# Altium integrated library Lattice FPGA ECP2.IntLib: 320 symbols (part 10 of 42)
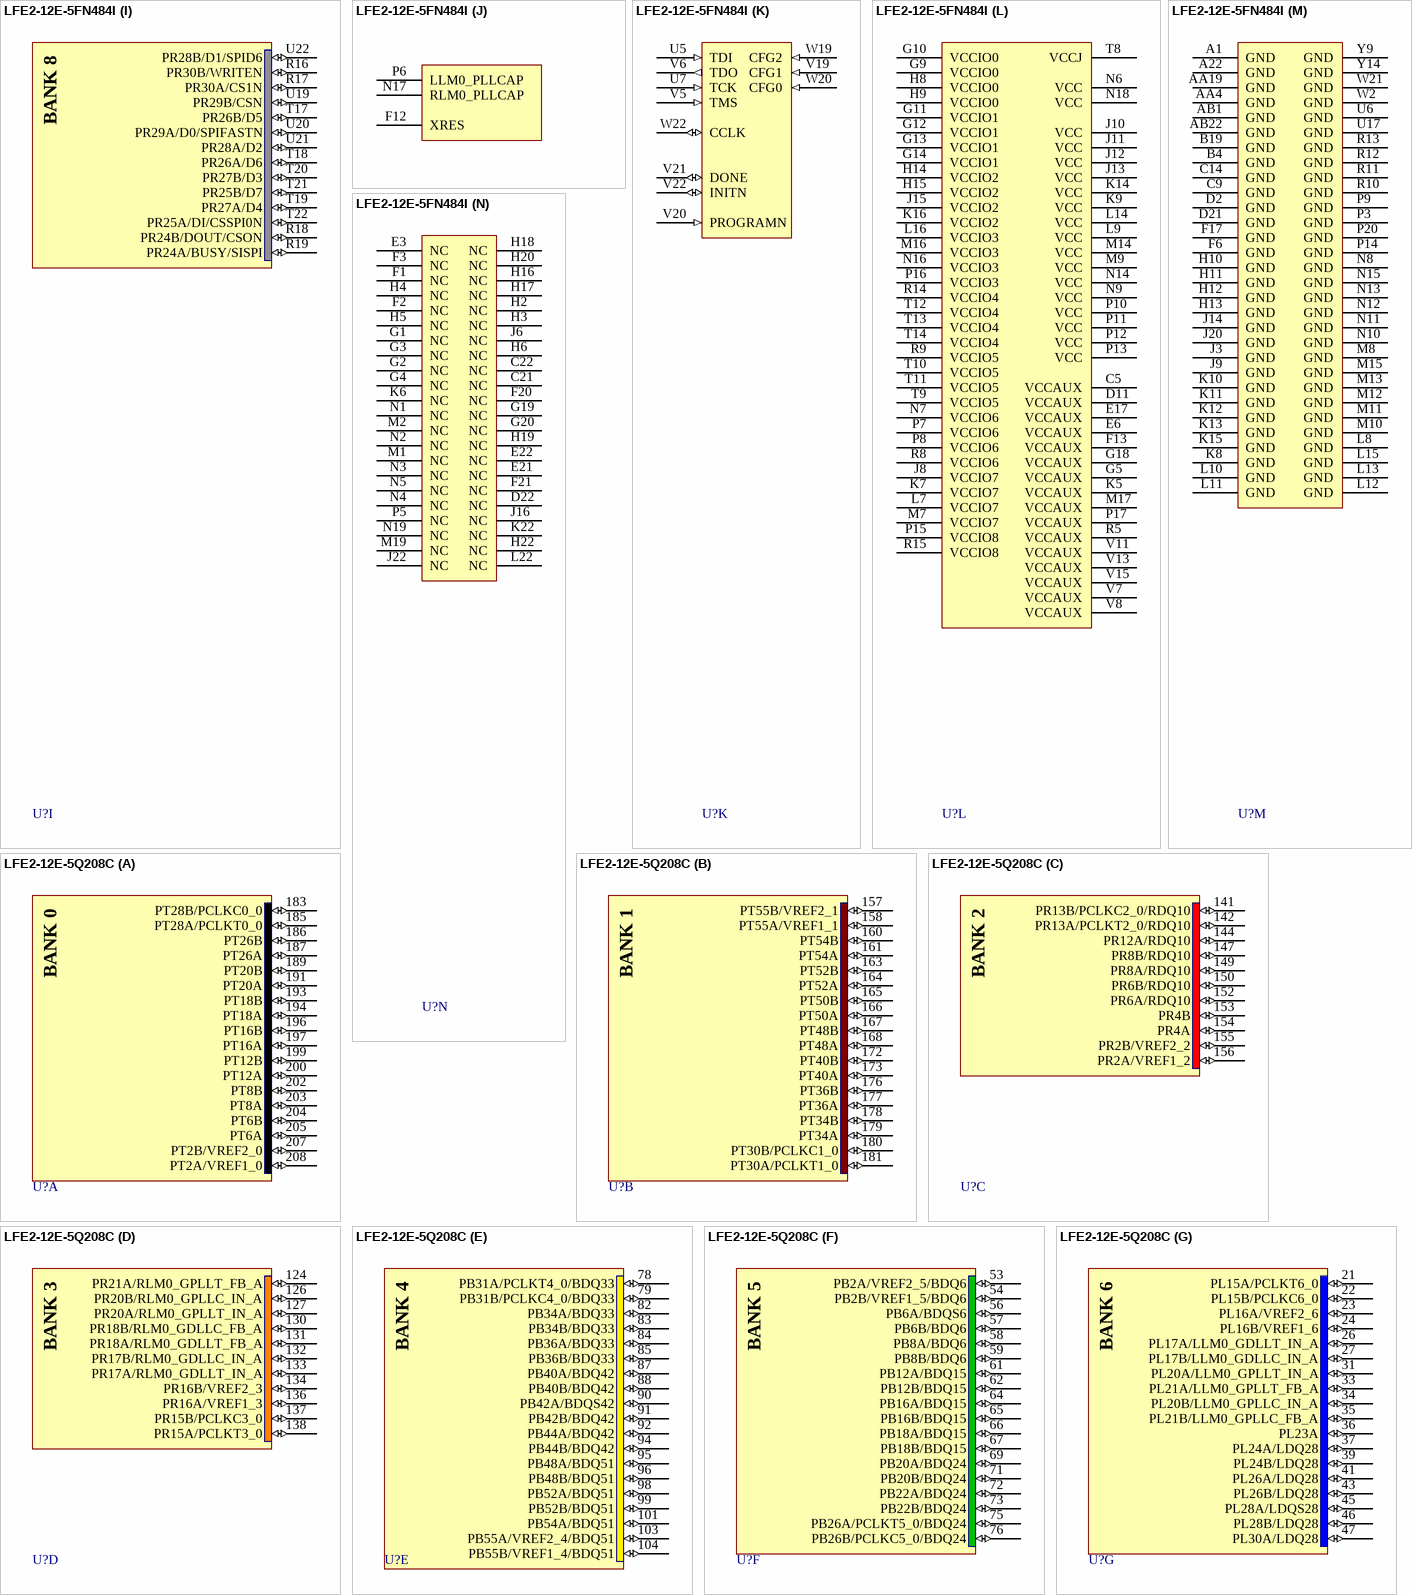
[diagram p503: symbols LFE2-12E-5FN484I to LFE2-12E-5Q208C]

## LFE2-12E-5FN484I
designator U?
ECP2 1.2V  FPGA, 297 I/Os, 12K LUTs, 484-Ball fpBGA, Speed Grade 5, Industrial Grade, Pb-Free; Published: 22-Jan-2007; LatestRevisionDate: 30-Apr-2009; LatestRevisionNote: Pin names updated.; DatasheetVersion: ver04.3, Mar-2009; PackageVersion: ver01.8, Dec-2008; PackageReference: fpBGA484; Publisher: Altium Limited; PackageDescription: 484-Ball Fine Pitch Ball Grid Array (fpBGA484); Code_IPC: BGA100P22X22-484; ComponentLink1Description: Manufacturer Link; ComponentLink1URL: http://www.latticesemi.com/products/fpga/ecp2/index.cfm; ComponentLink2Description: Datasheet; ComponentLink2URL: http://www.latticesemi.com/documents/HB1003.pdf
footprint fpBGA484 (BGA, 484-Leads, Body 23x23mm, Pitch 1mm)
3D model LFE2-12E_F484 (484-Ball Fine Pitch Ball Grid Array (fpBGA484))
part A pins: A2 PT12A (io), A3 PT12B (io), A4 PT13A (io), A5 PT13B (io), A6 PT21A (io), A7 PT24A (io), A8 PT24B (io), A9 PT27A (io), A10 PT27B (io), B1 PT5A (io), B2 PT5B (io), B3 PT10A (io), B5 PT16A (io), B6 PT16B (io), B7 PT21B (io), B8 PT23B (io), B9 PT23A (io), B10 PT28B/PCLKC0_0 (io), B11 PT28A/PCLKT0_0 (io), C1 PT2A/VREF1_0 (io), C2 PT3A (io), C3 PT10B (io), C4 PT6A (io), C6 PT17A (io), C7 PT17B (io), C8 PT20B (io), C10 PT26A (io), C11 PT26B (io), D1 PT2B/VREF2_0 (io), D3 PT3B (io), D4 PT6B (io), D5 PT7B (io), D6 PT7A (io), D7 PT9A (io), D8 PT20A (io), D9 PT15A (io), D10 PT18B (io), E7 PT8B (io), E8 PT11A (io), E9 PT14A (io), E10 PT18A (io), E11 PT25B (io), F7 PT8A (io), F8 PT9B (io), F9 PT14B (io), F10 PT15B (io), F11 PT25A (io), G8 PT11B (io), H7 PT4A (io), J7 PT4B (io)
part B pins: A11 PT31A (io), A12 PT31B (io), A13 PT35B (io), A14 PT39A (io), A15 PT40A (io), A16 PT44A (io), A17 PT44B (io), A18 PT49B (io), A19 PT52A (io), A20 PT50A (io), A21 PT50B (io), B12 PT30B/PCLKC1_0 (io), B13 PT35A (io), B14 PT39B (io), B15 PT40B (io), B16 PT45A (io), B17 PT45B (io), B18 PT49A (io), B20 PT52B (io), B21 PT55B/VREF2_1 (io), B22 PT55A/VREF1_1 (io), C12 PT30A/PCLKT1_0 (io), C13 PT37A (io), C15 PT43B (io), C16 PT46A (io), C17 PT46B (io), C18 PT51A (io), C19 PT54A (io), C20 PT54B (io), D12 PT33A (io), D13 PT34A (io), D14 PT37B (io), D15 PT43A (io), D16 PT47B (io), D17 PT51B (io), D18 PT53B (io), E12 PT33B (io), E13 PT34B (io), E14 PT36B (io), E15 PT42B (io), E16 PT47A (io), E18 PT53A (io), F14 PT36A (io), F15 PT42A (io), G15 PT48A (io), G16 PT48B (io)
part C pins: D19 PR2B/VREF2_2 (io), D20 PR4A (io), E19 PR2A/VREF1_2 (io), E20 PR4B (io), F16 PR3A (io), F18 PR3B (io), F19 PR5A (io), F22 PR9A/RDQ10 (io), G17 PR5B (io), G21 PR6A/RDQ10 (io), G22 PR9B/RDQ10 (io), H21 PR6B/RDQ10 (io), J17 PR8B/RDQ10 (io), J18 PR8A/RDQ10 (io), J19 PR7A/RDQ10 (io), K17 PR11A/RDQ10 (io), K18 PR10B/RDQ10 (io), K19 PR10A/RDQS10 (io), K20 PR7B/RDQ10 (io), L17 PR13A/PCLKT2_0/RDQ10 (io), L18 PR11B/RDQ10 (io), L19 PR12B/RDQ10 (io), L20 PR12A/RDQ10 (io), M18 PR13B/PCLKC2_0/RDQ10 (io)
part D pins: J21 PR15A/PCLKT3_0 (io), K21 PR15B/PCLKC3_0 (io), L21 PR16A/VREF1_3 (io), M20 PR16B/VREF2_3 (io), M21 PR17A/RLM0_GDLLT_IN_A (io), M22 PR17B/RLM0_GDLLC_IN_A (io), N20 PR18A/RLM0_GDLLT_FB_A (io), N21 PR20A/RLM0_GPLLT_IN_A (io), N22 PR18B/RLM0_GDLLC_FB_A (io), P18 PR22B (io), P19 PR22A (io), P21 PR20B/RLM0_GPLLC_IN_A (io), P22 PR21A/RLM0_GPLLT_FB_A (io), R20 PR21B/RLM0_GPLLC_FB_A (io), R21 PR23A (io), R22 PR23B (io)
part E pins: AA13 PB33A/BDQS33 (io), AA14 PB35B/BDQ33 (io), AA15 PB41B/BDQ42 (io), AA16 PB42A/BDQS42 (io), AA17 PB42B/BDQ42 (io), AA18 PB46A/BDQ42 (io), AA20 PB46B/BDQ42 (io), AA21 PB48A/BDQ51 (io), AA22 PB48B/BDQ51 (io), AB15 PB35A/BDQ33 (io), AB16 PB36A/BDQ33 (io), AB17 PB36B/BDQ33 (io), AB18 PB39A/BDQ42 (io), AB19 PB39B/BDQ42 (io), AB20 PB43A/BDQ42 (io), AB21 PB43B/BDQ42 (io), T15 PB55A/VREF2_4/BDQ51 (io), T16 PB55B/VREF1_4/BDQ51 (io), U12 PB31A/PCLKT4_0/BDQ33 (io), U13 PB34A/BDQ33 (io), U14 PB34B/BDQ33 (io), U15 PB44A/BDQ42 (io), U16 PB44B/BDQ42 (io), U18 PB54A/BDQ51 (io), V12 PB31B/PCLKC4_0/BDQ33 (io), V14 PB40A/BDQ42 (io), V16 PB49A/BDQ51 (io), V17 PB49B/BDQ51 (io), V18 PB54B/BDQ51 (io), W12 PB32B/BDQ33 (io), W13 PB37A/BDQ33 (io), W14 PB37B/BDQ33 (io), W15 PB40B/BDQ42 (io), W16 PB45B/BDQ42 (io), W17 PB52A/BDQ51 (io), W18 PB52B/BDQ51 (io), Y12 PB32A/BDQ33 (io), Y13 PB33B/BDQ33 (io), Y15 PB41A/BDQ42 (io), Y16 PB45A/BDQ42 (io), Y17 PB50B/BDQ51 (io), Y18 PB50A/BDQ51 (io), Y19 PB51A/BDQS51 (io), Y20 PB51B/BDQ51 (io), Y21 PB53A/BDQ51 (io), Y22 PB53B/BDQ51 (io)
part F pins: AA3 PB6B/BDQ6 (io), AA5 PB8A/BDQ6 (io), AA6 PB9B/BDQ6 (io), AA7 PB13A/BDQ15 (io), AA8 PB16B/BDQ15 (io), AA9 PB18B/BDQ15 (io), AA10 PB21B/BDQ24 (io), AA11 PB23B/BDQ24 (io), AA12 PB25B/BDQ24 (io), AB2 PB5B/BDQ6 (io), AB3 PB5A/BDQ6 (io), AB4 PB7B/BDQ6 (io), AB5 PB7A/BDQ6 (io), AB6 PB9A/BDQ6 (io), AB7 PB13B/BDQ15 (io), AB8 PB18A/BDQ15 (io), AB9 PB20A/BDQ24 (io), AB10 PB20B/BDQ24 (io), AB11 PB23A/BDQ24 (io), AB12 PB25A/BDQ24 (io), AB13 PB26A/PCLKT5_0/BDQ24 (io), AB14 PB26B/PCLKC5_0/BDQ24 (io), U8 PB14A/BDQ15 (io), U9 PB14B/BDQ15 (io), U10 PB22A/BDQ24 (io), U11 PB22B/BDQ24 (io), V9 PB15B/BDQ15 (io), V10 PB17B/BDQ15 (io), W3 PB3B/BDQ6 (io), W4 PB3A/BDQ6 (io), W5 PB4A/BDQ6 (io), W6 PB4B/BDQ6 (io), W7 PB11A/BDQ15 (io), W8 PB11B/BDQ15 (io), W9 PB15A/BDQS15 (io), W10 PB17A/BDQ15 (io), W11 PB24B/BDQ24 (io), Y2 PB2B/VREF1_5/BDQ6 (io), Y3 PB2A/VREF2_5/BDQ6 (io), Y4 PB6A/BDQS6 (io), Y5 PB8B/BDQ6 (io), Y6 PB12A/BDQ15 (io), Y7 PB12B/BDQ15 (io), Y8 PB16A/BDQ15 (io), Y10 PB21A/BDQ24 (io), Y11 PB24A/BDQS24 (io)
part G pins: AA1 PL31B/LDQ28 (io), AA2 PL31A/LDQ28 (io), M3 PL16A/VREF2_6 (io), M4 PL16B/VREF1_6 (io), M5 PL15A/PCLKT6_0 (io), M6 PL15B/PCLKC6_0 (io), P1 PL17A/LLM0_GDLLT_IN_A (io), P2 PL17B/LLM0_GDLLC_IN_A (io), P4 PL18A/LLM0_GDLLT_FB_A (io), R1 PL20A/LLM0_GPLLT_IN_A (io), R2 PL20B/LLM0_GPLLC_IN_A (io), R3 PL21A/LLM0_GPLLT_FB_A (io), R4 PL18B/LLM0_GDLLC_FB_A (io), R6 PL26A/LDQ28 (io), R7 PL29A/LDQ28 (io), T1 PL22A (io), T2 PL22B (io), T3 PL23B (io), T4 PL21B/LLM0_GPLLC_FB_A (io), T5 PL23A (io), T6 PL26B/LDQ28 (io), T7 PL29B/LDQ28 (io), U1 PL24A/LDQ28 (io), U2 PL24B/LDQ28 (io), U3 PL27A/LDQ28 (io), U4 PL27B/LDQ28 (io), V1 PL25A/LDQ28 (io), V2 PL25B/LDQ28 (io), V3 PL30B/LDQ28 (io), V4 PL30A/LDQ28 (io), W1 PL28B/LDQ28 (io), Y1 PL28A/LDQS28 (io)
part H pins: E1 PL4B (io), E2 PL4A (io), E4 PL2A/VREF2_7 (io), E5 PL2B/VREF1_7 (io), F4 PL3A (io), F5 PL3B (io), G6 PL5A (io), G7 PL5B (io), H1 PL6A/LDQ10 (io), J1 PL8B/LDQ10 (io), J2 PL8A/LDQ10 (io), J4 PL7A/LDQ10 (io), J5 PL7B/LDQ10 (io), K1 PL11B/LDQ10 (io), K2 PL11A/LDQ10 (io), K3 PL10A/LDQS10 (io), K4 PL10B/LDQ10 (io), L1 PL13B/PCLKC7_0/LDQ10 (io), L2 PL13A/PCLKT7_0/LDQ10 (io), L3 PL12B/LDQ10 (io), L4 PL12A/LDQ10 (io), L5 PL9B/LDQ10 (io), L6 PL9A/LDQ10 (io)
part I pins: R16 PR30B/WRITEN (io), R17 PR30A/CS1N (io), R18 PR24B/DOUT/CSON (io), R19 PR24A/BUSY/SISPI (io), T17 PR26B/D5 (io), T18 PR26A/D6 (io), T19 PR27A/D4 (io), T20 PR27B/D3 (io), T21 PR25B/D7 (io), T22 PR25A/DI/CSSPI0N (io), U19 PR29B/CSN (io), U20 PR29A/D0/SPIFASTN (io), U21 PR28A/D2 (io), U22 PR28B/D1/SPID6 (io)
part J pins: F12 XRES, N17 RLM0_PLLCAP, P6 LLM0_PLLCAP
part K pins: U5 TDI (in), U7 TCK (in), V5 TMS (in), V6 TDO (out), V19 CFG1 (in), V20 PROGRAMN (in), V21 DONE (io), V22 INITN (io), W19 CFG2 (in), W20 CFG0 (in), W22 CCLK (io)
part L pins: C5 VCCAUX (power), D11 VCCAUX (power), E6 VCCAUX (power), E17 VCCAUX (power), F13 VCCAUX (power), G5 VCCAUX (power), G9 VCCIO0 (power), G10 VCCIO0 (power), G11 VCCIO1 (power), G12 VCCIO1 (power), G13 VCCIO1 (power), G14 VCCIO1 (power), G18 VCCAUX (power), H8 VCCIO0 (power), H9 VCCIO0 (power), H14 VCCIO2 (power), H15 VCCIO2 (power), J8 VCCIO7 (power), J10 VCC (power), J11 VCC (power), J12 VCC (power), J13 VCC (power), J15 VCCIO2 (power), K5 VCCAUX (power), K7 VCCIO7 (power), K9 VCC (power), K14 VCC (power), K16 VCCIO2 (power), L7 VCCIO7 (power), L9 VCC (power), L14 VCC (power), L16 VCCIO3 (power), M7 VCCIO7 (power), M9 VCC (power), M14 VCC (power), M16 VCCIO3 (power), M17 VCCAUX (power), N6 VCC (power), N7 VCCIO6 (power), N9 VCC (power), N14 VCC (power), N16 VCCIO3 (power), N18 VCC (power), P7 VCCIO6 (power), P8 VCCIO6 (power), P10 VCC (power), P11 VCC (power), P12 VCC (power), P13 VCC (power), P15 VCCIO8 (power), P16 VCCIO3 (power), P17 VCCAUX (power), R5 VCCAUX (power), R8 VCCIO6 (power), R9 VCCIO5 (power), R14 VCCIO4 (power), R15 VCCIO8 (power), T8 VCCJ (power), T9 VCCIO5 (power), T10 VCCIO5 (power), T11 VCCIO5 (power), T12 VCCIO4 (power), T13 VCCIO4 (power), T14 VCCIO4 (power), V7 VCCAUX (power), V8 VCCAUX (power), V11 VCCAUX (power), V13 VCCAUX (power), V15 VCCAUX (power)
part M pins: A1 GND (power), A22 GND (power), AA4 GND (power), AA19 GND (power), AB1 GND (power), AB22 GND (power), B4 GND (power), B19 GND (power), C9 GND (power), C14 GND (power), D2 GND (power), D21 GND (power), F6 GND (power), F17 GND (power), H10 GND (power), H11 GND (power), H12 GND (power), H13 GND (power), J3 GND (power), J9 GND (power), J14 GND (power), J20 GND (power), K8 GND (power), K10 GND (power), K11 GND (power), K12 GND (power), K13 GND (power), K15 GND (power), L8 GND (power), L10 GND (power), L11 GND (power), L12 GND (power), L13 GND (power), L15 GND (power), M8 GND (power), M10 GND (power), M11 GND (power), M12 GND (power), M13 GND (power), M15 GND (power), N8 GND (power), N10 GND (power), N11 GND (power), N12 GND (power), N13 GND (power), N15 GND (power), P3 GND (power), P9 GND (power), P14 GND (power), P20 GND (power), R10 GND (power), R11 GND (power), R12 GND (power), R13 GND (power), U6 GND (power), U17 GND (power), W2 GND (power), W21 GND (power), Y9 GND (power), Y14 GND (power)
part N pins: C21 NC, C22 NC, D22 NC, E3 NC, E21 NC, E22 NC, F1 NC, F2 NC, F3 NC, F20 NC, F21 NC, G1 NC, G2 NC, G3 NC, G4 NC, G19 NC, G20 NC, H2 NC, H3 NC, H4 NC, H5 NC, H6 NC, H16 NC, H17 NC, H18 NC, H19 NC, H20 NC, H22 NC, J6 NC, J16 NC, J22 NC, K6 NC, K22 NC, L22 NC, M1 NC, M2 NC, M19 NC, N1 NC, N2 NC, N3 NC, N4 NC, N5 NC, N19 NC, P5 NC
part A text: BANK 0
part B text: BANK 1
part C text: BANK 2
part D text: BANK 3
part E text: BANK 4
part F text: BANK 5
part G text: BANK 6
part H text: BANK 7
part I text: BANK 8

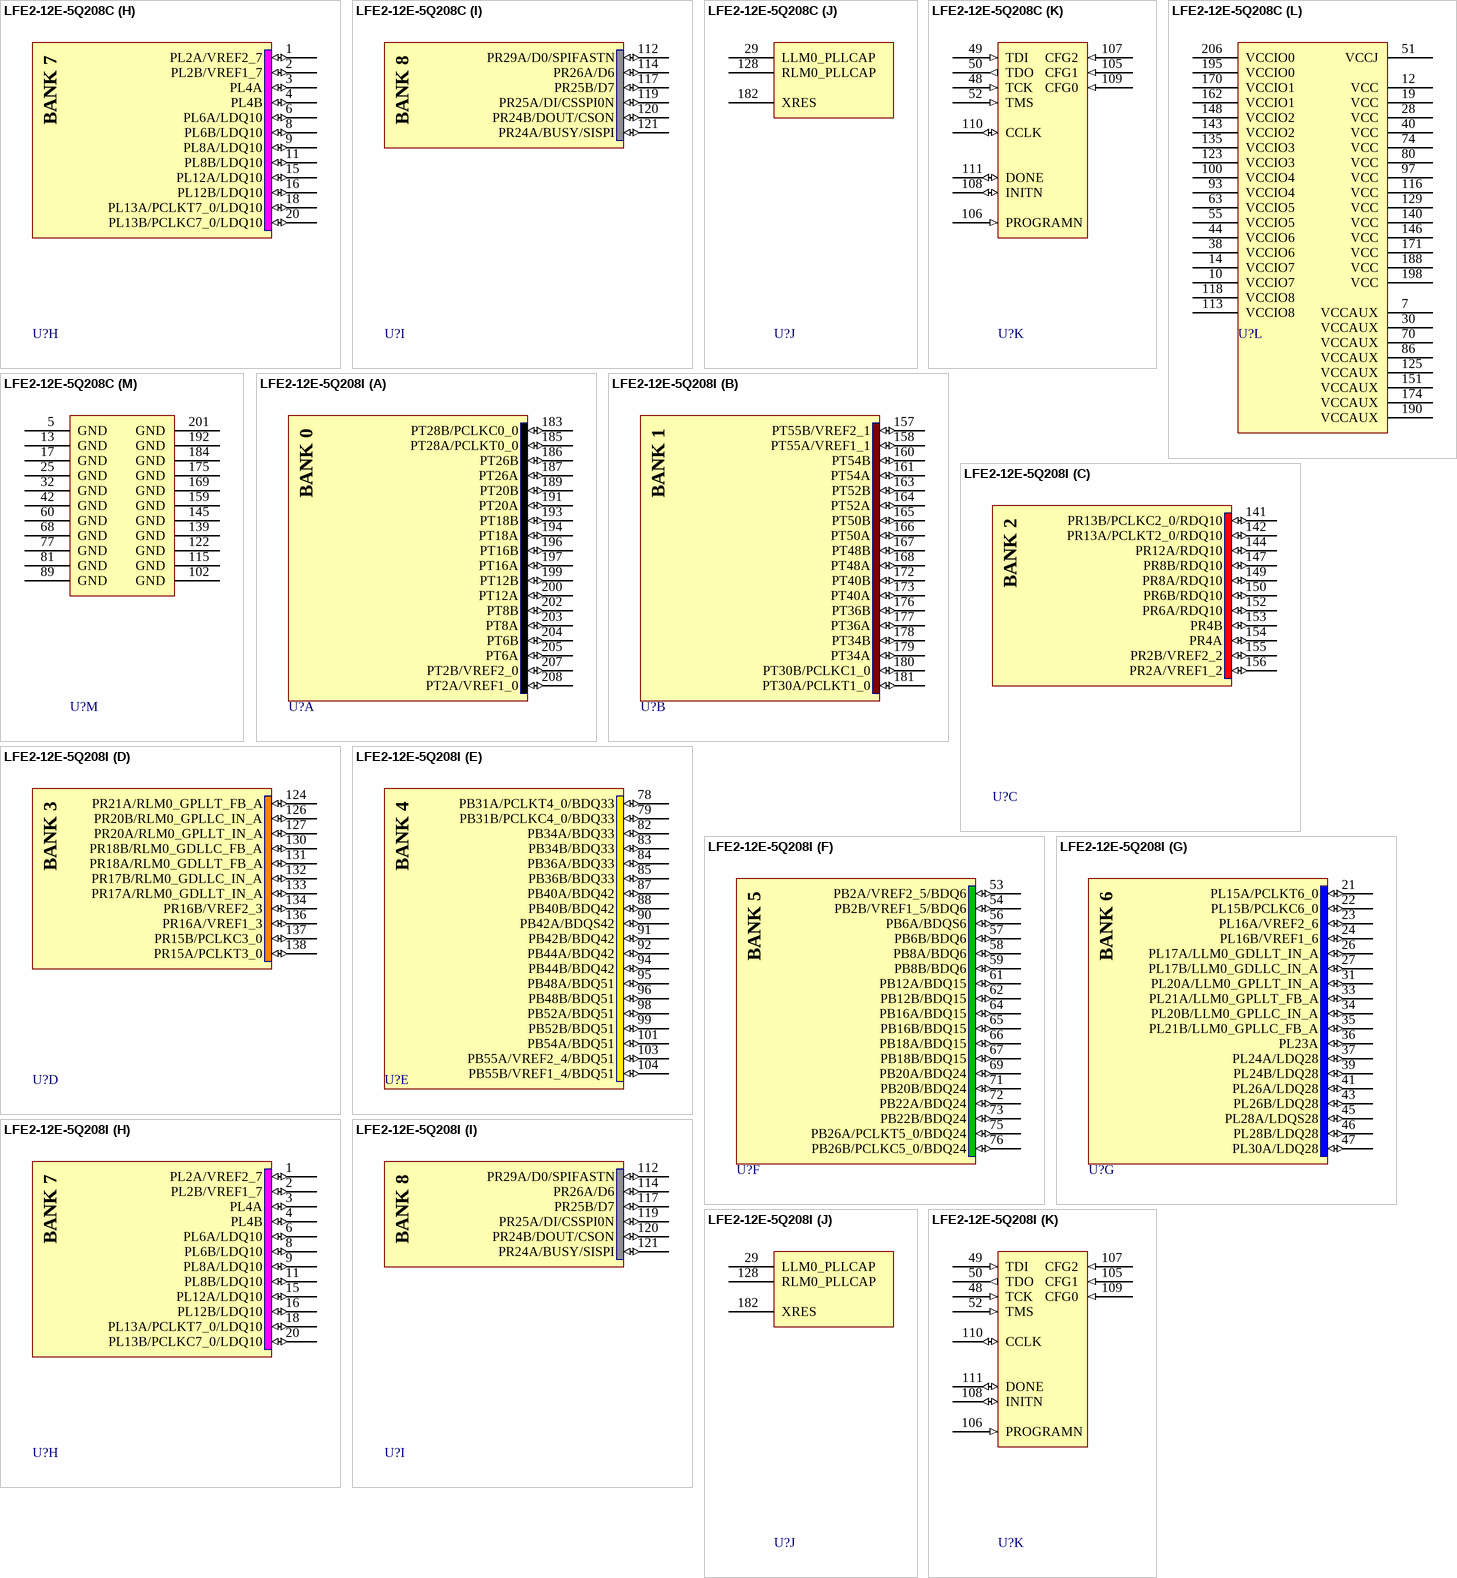
[diagram p46: symbols LFE2-12E-5Q208C to LFE2-12E-5Q208I]